# EAGLE library part MAX6818 (library FSAE Electric)
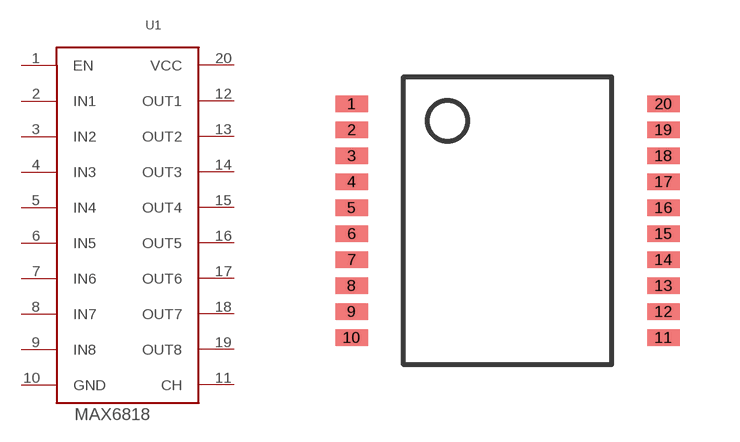
[diagram p85: symbol with the pads of SSOP-20; footprint SSOP-20]

Designator prefix U1

## MAX6818 (PARTNO: MAX6818EAP+)  [SSOP-20]
1  EN
2  IN1
3  IN2
4  IN3
5  IN4
6  IN5
7  IN6
8  IN7
9  IN8
10  GND
11  CH
12  OUT1
13  OUT2
14  OUT3
15  OUT4
16  OUT5
17  OUT6
18  OUT7
19  OUT8
20  VCC

## Footprint SSOP-20 (pad centres in mm)
smd 0.813 x 0.406: 1 -3.9,2.925; 2 -3.9,2.275; 3 -3.9,1.625; 4 -3.9,0.975; 5 -3.9,0.325; 6 -3.9,-0.325; 7 -3.9,-0.975; 8 -3.9,-1.625; 9 -3.9,-2.275; 10 -3.9,-2.925; 11 3.9,-2.925; 12 3.9,-2.275; 13 3.9,-1.625; 14 3.9,-0.975; 15 3.9,-0.325; 16 3.9,0.325; 17 3.9,0.975; 18 3.9,1.625; 19 3.9,2.275; 20 3.9,2.925